# EAGLE library part ADS7946SRTER (library ADS7946)
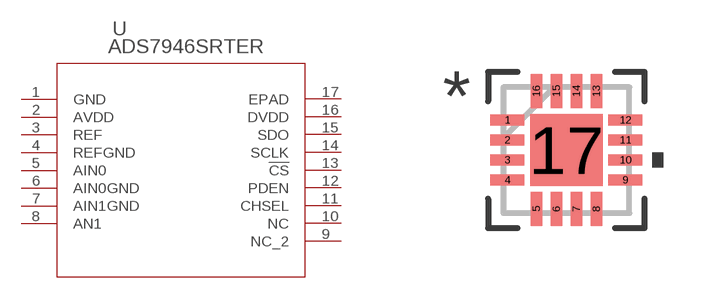
[diagram p0: symbol with the pads of RTE16_1P7X1P7; footprint RTE16_1P7X1P7]

Designator prefix U

## ADS7946SRTER (MANUFACTURER_PART_NUMBER: ADS7946SRTER; VENDOR: Texas Instruments)  [RTE16_1P7X1P7]
1  GND  pwr
2  AVDD  pwr
3  REF  pwr
4  REFGND  pwr
5  AIN0  in
6  AIN0GND  in
7  AIN1GND  in
8  AN1  in
9  NC_2  nc
10  NC  nc
11  CHSEL  in
12  PDEN  in
13  !CS  in
14  SCLK  in
15  SDO  out
16  DVDD  pwr
17  EPAD  pwr

## Footprint RTE16_1P7X1P7 (pad centres in mm)
smd 0.85 x 0.28: 1 -1.475,0.75; 2 -1.475,0.25; 3 -1.475,-0.25; 4 -1.475,-0.75; 9 1.475,-0.75; 10 1.475,-0.25; 11 1.475,0.25; 12 1.475,0.75
smd 0.28 x 0.85: 5 -0.75,-1.475; 6 -0.25,-1.475; 7 0.25,-1.475; 8 0.75,-1.475; 13 0.75,1.475; 14 0.25,1.475; 15 -0.25,1.475; 16 -0.75,1.475
smd 1.803 x 1.803: 17 0,0